# EAGLE library part 6270XX21721_62704421721 (library con-wurth)
WR-BHD 1.27 mm Male Angled Box Header KIND PROPERTIES: Pitch 1.27 mm Gender:Male MATERIAL PROPERTIES: Insulator Material Nylon 9T Insulator Flammability Rating UL94 V-0 Insulator Color Black Contact Material Brass Contact Plating Gold over Nickel GENERAL INFORMATION: Operating Temperature -40 up to +105 °C Working Voltage 50 V (AC) Withstanding Voltage 500 V (AC) Contact Resistance 20 mΩ RISO 1000 MΩ CERTIFICATION: UL Approval E323964 <https://www.we-online.com/catalog/media/o375402v209%20Family_WR-BHD_6270xx21721.jpg> Details see: https://www.we-online.com/catalog/en/WR_BHD_1_27_MM_MALE_ANGLED_BOX_HEADER Updated by Ella Wu 2022-03-02 2022 (C) Würth Elektronik
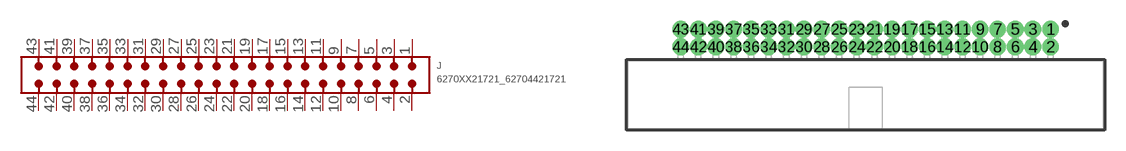
[diagram p57: symbol with the pads of 62704421721; footprint 62704421721]

Designator prefix J

## 6270XX21721_62704421721 (CONTACT-RESISTANCE: 20mOhm; DATASHEET-URL: https://www.we-online.com/redexpert/spec/62704421721?ae; GENDER: Male; IR: 1A; LENGTH: 34.29mm; MOUNT: THT; PART-NUMBER: 62704421721; PINS: 44; PITCH: 1.27mm; TYPE: Angled; VALUE: 62704421721; WORKING-VOLTAGE: 50V(AC))  [62704421721]
1  1  pas
2  2  pas
3  3  pas
4  4  pas
5  5  pas
6  6  pas
7  7  pas
8  8  pas
9  9  pas
10  10  pas
11  11  pas
12  12  pas
13  13  pas
14  14  pas
15  15  pas
16  16  pas
17  17  pas
18  18  pas
19  19  pas
20  20  pas
21  21  pas
22  22  pas
23  23  pas
24  24  pas
25  25  pas
26  26  pas
27  27  pas
28  28  pas
29  29  pas
30  30  pas
31  31  pas
32  32  pas
33  33  pas
34  34  pas
35  35  pas
36  36  pas
37  37  pas
38  38  pas
39  39  pas
40  40  pas
41  41  pas
42  42  pas
43  43  pas
44  44  pas

## Footprint 62704421721 (pad centres in mm)
WR-BHD 1,27mm Male THT Box Header Right angle, 44Pins
drill 0.7 pad 1.05: 1 13.335,4.72; 2 13.335,3.45; 3 12.065,4.72; 4 12.065,3.45; 5 10.795,4.72; 6 10.795,3.45; 7 9.525,4.72; 8 9.525,3.45; 9 8.255,4.72; 10 8.255,3.45; 11 6.985,4.72; 12 6.985,3.45; 13 5.715,4.72; 14 5.715,3.45; 15 4.445,4.72; 16 4.445,3.45; 17 3.175,4.72; 18 3.175,3.45; 19 1.905,4.72; 20 1.905,3.45; 21 0.635,4.72; 22 0.635,3.45; 23 -0.635,4.72; 24 -0.635,3.45; 25 -1.905,4.72; 26 -1.905,3.45; 27 -3.175,4.72; 28 -3.175,3.45; 29 -4.445,4.72; 30 -4.445,3.45; 31 -5.715,4.72; 32 -5.715,3.45; 33 -6.985,4.72; 34 -6.985,3.45; 35 -8.255,4.72; 36 -8.255,3.45; 37 -9.525,4.72; 38 -9.525,3.45; 39 -10.795,4.72; 40 -10.795,3.45; 41 -12.065,4.72; 42 -12.065,3.45; 43 -13.335,4.72; 44 -13.335,3.45